# Altium schematic symbol library CENR50-LaserCable.SchLib: 16 symbols
Pins are listed as number, name and electrical type; pins without a type are passive.

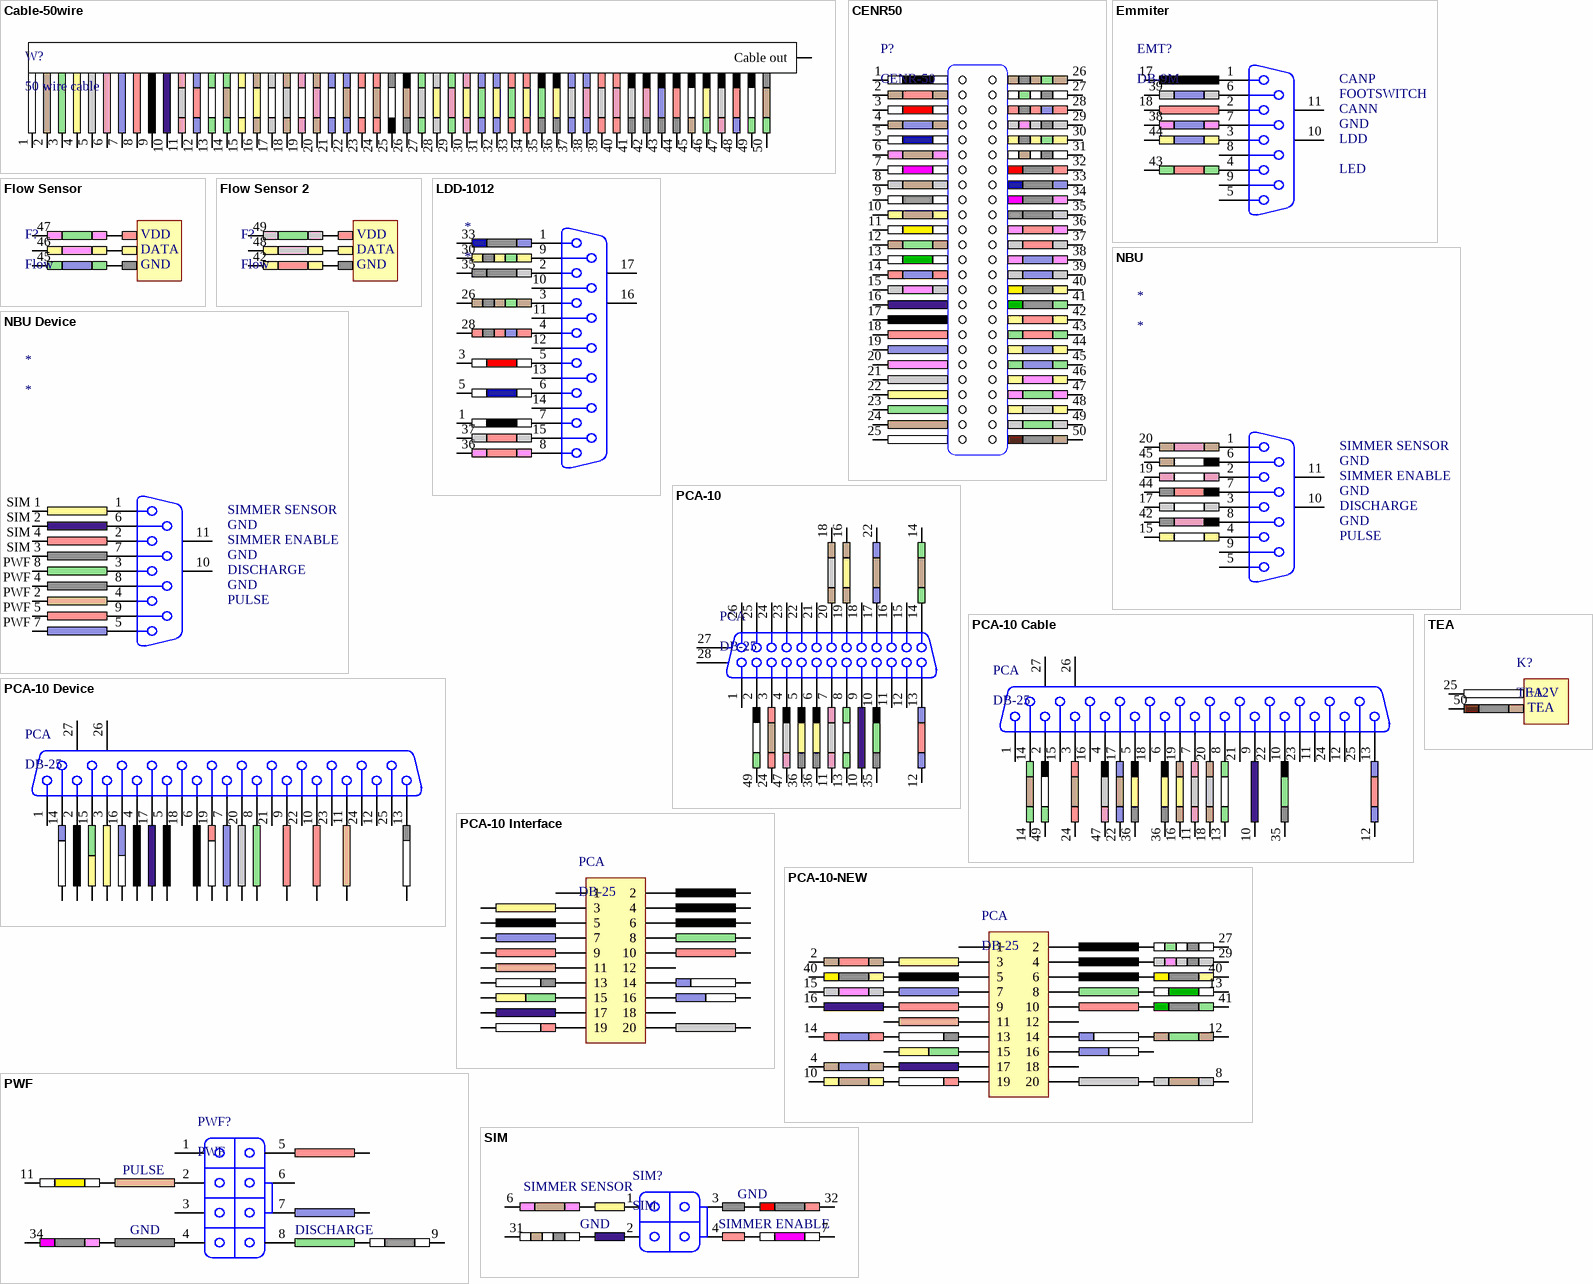
[diagram p0: symbols Cable-50wire to TEA]

## Cable-50wire
designator W?, comment 50 wire cable
pins: 1, 2, 3, 4, 5, 6, 7, 8, 9, 10, 11, 12, 13, 14, 15, 16, 17, 18, 19, 20, 21, 22, 23, 24, 25, 26, 27, 28, 29, 30, 31, 32, 33, 34, 35, 36, 37, 38, 39, 40, 41, 42, 43, 44, 45, 46, 47, 48, 49, 50, 51 Cable out

## CENR50
designator P?, comment CENR-50
Laser Interface Cable
pins: 1, 2, 3, 4, 5, 6, 7, 8, 9, 10, 11, 12, 13, 14, 15, 16, 17, 18, 19, 20, 21, 22, 23, 24, 25, 26, 27, 28, 29, 30, 31, 32, 33, 34, 35, 36, 37, 38, 39, 40, 41, 42, 43, 44, 45, 46, 47, 48, 49, 50

## Emmiter
designator EMT?, comment DB-9M
pins: 1, 2, 3, 4, 5, 6, 7, 8, 9, 10 MH1, 11 MH2, 17, 18, 38, 39, 43, 44
text: CANP; FOOTSWITCH; CANN; GND; LDD; LED

## Flow Sensor
designator F?, comment Flow
Flow sensor
pins: 45, 46, 47
text: VDD; DATA; GND

## Flow Sensor 2
designator F?, comment Flow
Flow sensor 2
pins: 42, 48, 49
text: VDD; DATA; GND

## LDD-1012
designator *
pins: 1, 1, 2, 3, 3, 4, 5, 5, 6, 7, 8, 9, 10, 11, 12, 13, 14, 15, 16 MH1, 17 MH2, 26, 28, 30, 33, 35, 36, 37

## NBU
designator *
pins: 1, 2, 3, 4, 5, 6, 7, 8, 9, 10 MH1, 11 MH2, 15, 17, 19, 20, 42, 44, 45
text: SIMMER SENSOR; GND; SIMMER ENABLE; DISCHARGE; PULSE

## NBU Device
designator *
pins: 1, 2, 3, 4, 5, 6, 7, 8, 9, 10 MH1, 11 MH2,  SIM 2,  SIM 4, PWF 2, PWF 4, PWF 5, PWF 7, PWF 8, SIM 1, SIM 3
text: SIMMER SENSOR; GND; SIMMER ENABLE; DISCHARGE; PULSE

## PCA-10
designator PCA, comment DB-25
pins: 1, 2, 3, 4, 5, 6, 7, 8, 9, 10, 10, 11, 11, 12, 12, 13, 13, 14, 14, 15, 16, 16, 17, 18, 18, 19, 20, 21, 22, 22, 23, 24, 24, 25, 26, 27 MH1, 28 MH2, 35, 36, 36, 47, 49

## PCA-10 Cable
designator PCA, comment DB-25
pins: 1, 2, 3, 4, 5, 6, 7, 8, 9, 10, 10, 11, 11, 12, 12, 13, 13, 14, 14, 15, 16, 16, 17, 18, 18, 19, 20, 21, 22, 22, 23, 24, 24, 25, 26 MH1, 27 MH2, 35, 36, 36, 47, 49

## PCA-10 Device
designator PCA, comment DB-25
pins: 1, 2, 3, 4, 5, 6, 7, 8, 9, 10, 11, 12, 13, 14, 15, 16, 17, 18, 19, 20, 21, 22, 23, 24, 25, 26 MH1, 27 MH2, ?1, ?2, ?3, ?4, ?5, ?6, ?7, ?8, ?9, ?10, ?11, ?12, ?13, ?14, ?15, ?16, ?17

## PCA-10 Interface
designator PCA, comment DB-25
pins: 1, 2, 3, 4, 5, 6, 7, 8, 9, 10, 11, 12, 13, 14, 15, 16, 17, 18, 19, 20, ?1, ?2, ?3, ?4, ?5, ?6, ?7, ?8, ?9, ?10, ?11, ?12, ?13, ?14, ?15, ?16, ?17

## PCA-10-NEW
designator PCA, comment DB-25
pins: 1, 2, 2, 3, 4, 4, 5, 6, 7, 8, 8, 9, 10, 10, 11, 12, 12, 13, 13, 14, 14, 15, 15, 16, 16, 17, 18, 19, 20, 27, 29, 40, 40, 41, ?1, ?2, ?3, ?4, ?5, ?6, ?7, ?8, ?9, ?10, ?11, ?12, ?13, ?14, ?15, ?16, ?17

## PWF
designator PWF?
pins: 1, 2, 3, 4, 5, 6, 7, 8, 9, 11, 34, ?1, ?2, ?3, ?4, ?5
text: PULSE; GND; DISCHARGE

## SIM
designator SIM?
pins: 1, 2, 3, 4, 6, 7, 31, 32, ?1, ?2, ?3, ?4
text: SIMMER SENSOR; GND; SIMMER ENABLE

## TEA
designator K?
Termo electrical assembly
pins: 25, 50
text: +12V